# EAGLE library part HI1-0506A-5 (library Intersil_By_element14_Batch_1)
CMOS Analog MUXs
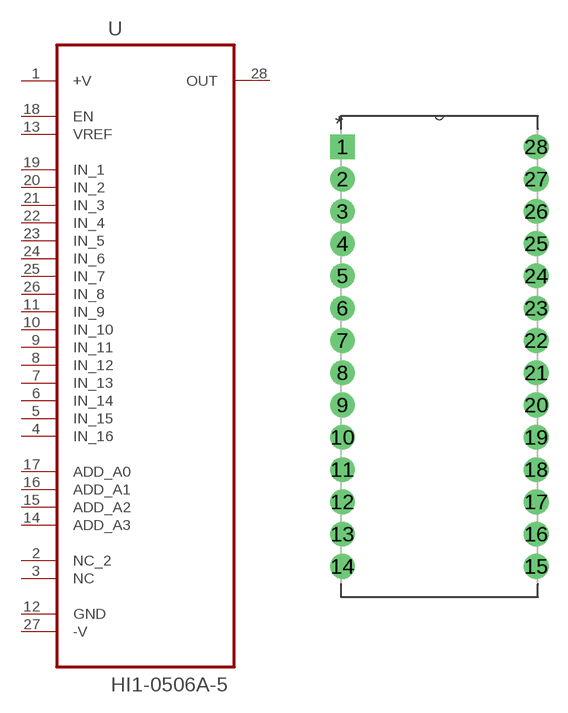
[diagram p118: symbol with the pads of DIP254P1524X592-28; footprint DIP254P1524X592-28]

Designator prefix U

## HI1-0506A-5 (MPN: HI1-0506A-5; OC_FARNELL: -; OC_NEWARK: 06F6249; PACKAGE: PCDIP-28; SUPPLIER: INTERSIL)  [DIP254P1524X592-28]
1  +V  pwr
2  NC_2  nc
3  NC  nc
4  IN_16  in
5  IN_15  in
6  IN_14  in
7  IN_13  in
8  IN_12  in
9  IN_11  in
10  IN_10  in
11  IN_9  in
12  GND  pas
13  VREF  in
14  ADD_A3  in
15  ADD_A2  in
16  ADD_A1  in
17  ADD_A0  in
18  EN  in
19  IN_1  in
20  IN_2  in
21  IN_3  in
22  IN_4  in
23  IN_5  in
24  IN_6  in
25  IN_7  in
26  IN_8  in
27  -V  pwr
28  OUT  out

## Footprint DIP254P1524X592-28 (pad centres in mm)
drill 1.295 square: 1 -15.24,33.02
drill 1.295: 2 -15.24,30.48; 3 -15.24,27.94; 4 -15.24,25.4; 5 -15.24,22.86; 6 -15.24,20.32; 7 -15.24,17.78; 8 -15.24,15.24; 9 -15.24,12.7; 10 -15.24,10.16; 11 -15.24,7.62; 12 -15.24,5.08; 13 -15.24,2.54; 14 -15.24,0; 15 0,0; 16 0,2.54; 17 0,5.08; 18 0,7.62; 19 0,10.16; 20 0,12.7; 21 0,15.24; 22 0,17.78; 23 0,20.32; 24 0,22.86; 25 0,25.4; 26 0,27.94; 27 0,30.48; 28 0,33.02